# Altium schematic symbol library Module.SchLib: 13 symbols
Pins are listed as number, name and electrical type; pins without a type are passive.

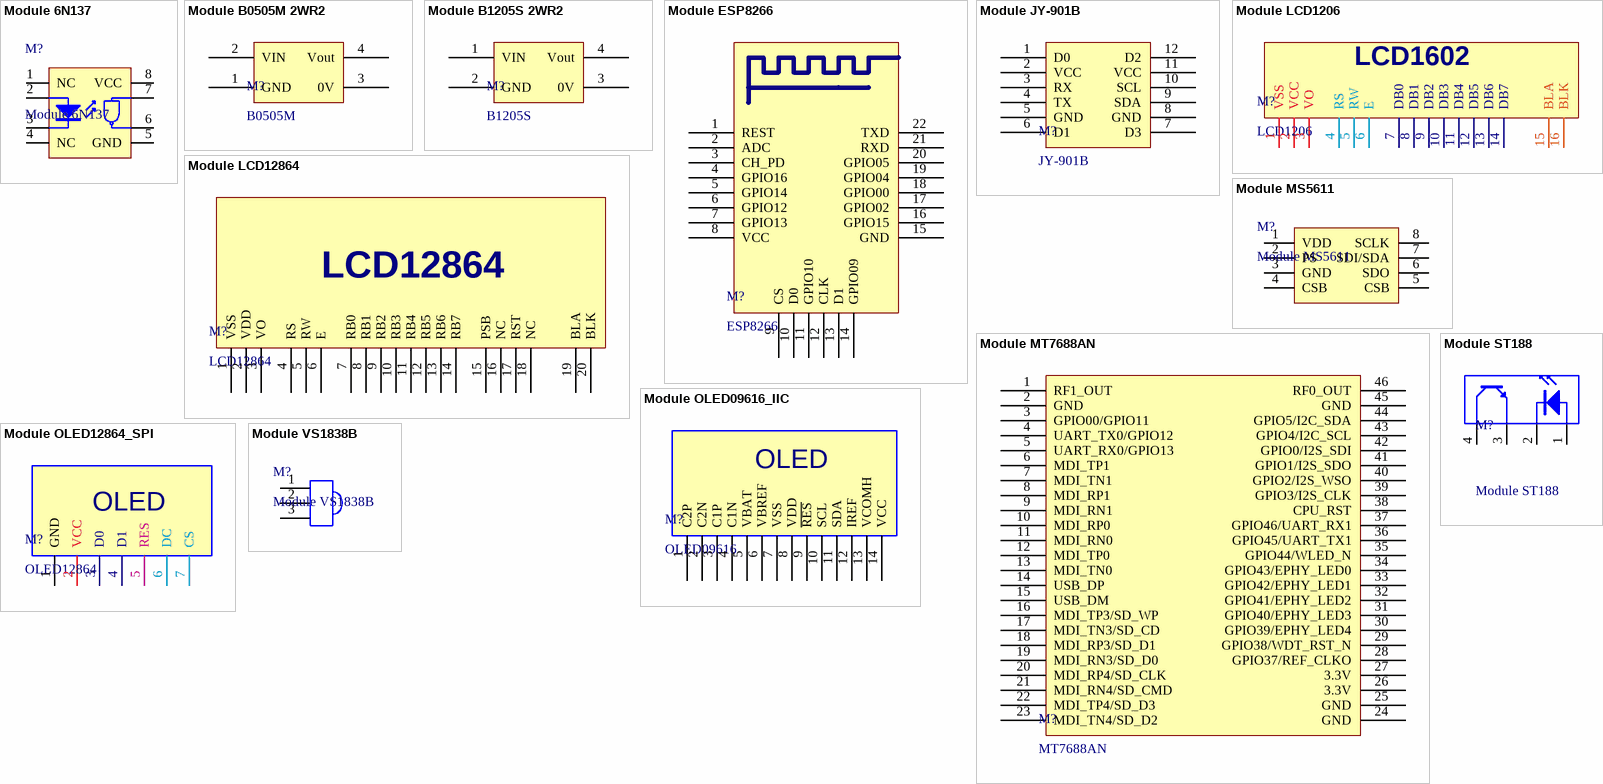
[diagram p0: symbols Module 6N137 to Module VS1838B]

## Module 6N137
designator M?
10M高速集成光耦
footprint SMD_6N137
pins: 1 NC "Anode", 2 LED+ "Cathode", 3 LED- "Cathode", 4 NC "Cathode", 5 GND "Collector", 6 Vo "Emitter", 7 Ve "Emitter", 8 VCC "Emitter"

## Module B0505M 2WR2
designator M?, comment B0505M
隔离电源; ComponentLink1Description: 立创商城链接; ComponentLink1URL: https://item.szlcsc.com/89442.html
footprint B0505M
pins: 1 GND, 2 VIN, 3 0V, 4 Vout

## Module B1205S 2WR2
designator M?, comment B1205S
隔离电源; ComponentLink1Description: 立创商城链接; ComponentLink1URL: https://item.szlcsc.com/89769.html
footprint B1205S
pins: 1 VIN, 2 GND, 3 0V, 4 Vout

## Module ESP8266
designator M?, comment ESP8266
ESP8266模块
footprint ESP8266
pins: 1 REST, 2 ADC, 3 CH_PD, 4 GPIO16, 5 GPIO14, 6 GPIO12, 7 GPIO13, 8 VCC, 9 CS, 10 D0, 11 GPIO10, 12 CLK, 13 D1, 14 GPIO09, 15 GND, 16 GPIO15, 17 GPIO02, 18 GPIO00, 19 GPIO04, 20 GPIO05, 21 RXD, 22 TXD

## Module JY-901B
designator M?, comment JY-901B
10轴传感器
footprint JY-901B_INT
footprint JY-901B_SMT
footprint JY-901B_SMT2
pins: 1 D0, 2 VCC, 3 RX, 4 TX, 5 GND, 6 D1, 7 D3, 8 GND, 9 SDA, 10 SCL, 11 VCC, 12 D2

## Module LCD1206
designator M?, comment LCD1206
LCD模块
footprint LCD1602
pins: 1 VSS, 2 VCC, 3 VO, 4 RS, 5 RW, 6 E, 7 DB0, 8 DB1, 9 DB2, 10 DB3, 11 DB4, 12 DB5, 13 DB6, 14 DB7, 15 BLA, 16 BLK
text: LCD1602

## Module LCD12864
designator M?, comment LCD12864
LCD模块
footprint LCD12864
pins: 1 VSS, 2 VDD, 3 VO, 4 RS, 5 RW, 6 E, 7 RB0, 8 RB1, 9 RB2, 10 RB3, 11 RB4, 12 RB5, 13 RB6, 14 RB7, 15 PSB, 16 NC, 17 RST, 18 NC, 19 BLA, 20 BLK

## Module MS5611
designator M?
气压传感器
footprint MS5611 (气压传感芯片)
pins: 1 VDD, 2 PS, 3 GND, 4 CSB, 5 CSB, 6 SDO, 7 SDI/SDA, 8 SCLK

## Module MT7688AN
designator M?, comment MT7688AN
WiFi模块
footprint MT7688 (WiFi模块)
pins: 1 RF1_OUT, 2 GND, 3 GPIO00/GPIO11, 4 UART_TX0/GPIO12, 5 UART_RX0/GPIO13, 6 MDI_TP1, 7 MDI_TN1, 8 MDI_RP1, 9 MDI_RN1, 10 MDI_RP0, 11 MDI_RN0, 12 MDI_TP0, 13 MDI_TN0, 14 USB_DP, 15 USB_DM, 16 MDI_TP3/SD_WP, 17 MDI_TN3/SD_CD, 18 MDI_RP3/SD_D1, 19 MDI_RN3/SD_D0, 20 MDI_RP4/SD_CLK, 21 MDI_RN4/SD_CMD, 22 MDI_TP4/SD_D3, 23 MDI_TN4/SD_D2, 24 GND, 25 GND, 26 3.3V, 27 3.3V, 28 GPIO37/REF_CLKO, 29 GPIO38/WDT_RST_N, 30 GPIO39/EPHY_LED4, 31 GPIO40/EPHY_LED3, 32 GPIO41/EPHY_LED2, 33 GPIO42/EPHY_LED1, 34 GPIO43/EPHY_LED0, 35 GPIO44/WLED_N, 36 GPIO45/UART_TX1, 37 GPIO46/UART_RX1, 38 CPU_RST, 39 GPIO3/I2S_CLK, 40 GPIO2/I2S_WSO, 41 GPIO1/I2S_SDO, 42 GPIO0/I2S_SDI, 43 GPIO4/I2C_SCL, 44 GPIO5/I2C_SDA, 45 GND, 46 RF0_OUT

## Module OLED09616_IIC
designator M?, comment OLED09616
OLED模块
footprint OLED 09616
pins: 1 C2P, 2 C2N, 3 C1P, 4 C1N, 5 VBAT, 6 VBREF, 7 VSS, 8 VDD, 9 ~{RES}, 10 SCL, 11 SDA, 12 IREF, 13 VCOMH, 14 VCC
text: OLED

## Module OLED12864_SPI
designator M?, comment OLED12864
OLED模块
footprint OLED 12864
pins: 1 GND, 2 VCC, 3 D0, 4 D1, 5 RES, 6 DC, 7 CS
text: OLED

## Module ST188
designator M?
反射型光耦
footprint ST188 (反射型光耦)
pins: 1 A "Anode", 2 K "Cathode", 3 E "Emitter", 4 C "Collector"

## Module VS1838B
designator M?
红外接收头
footprint VS1838B-A (一体红外接收头)
footprint VS1838B-B (一体红外接收头)
footprint VS1838B-B_H (卧式一体红外接收头)
footprint VS1838B-A_H (卧式一体红外接收头)
pins: 1 A "Anode", 2 K "Cathode", 3 E "Emitter"